# Altium schematic symbol library CN 4POS JST ZE SMT.Schlib: 1 symbol
Pins are listed as number, name and electrical type; pins without a type are passive.

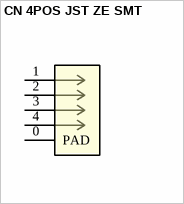
[diagram p0: symbol CN 4POS JST ZE SMT]

## CN 4POS JST ZE SMT
designator J?, comment BM04B-ZESS-TBT(LF)(SN)
Connector Header, ZE Series, 4 Positon, 1.5mm, Shrouded - 4 Wall, Solder, Locking Ramp, Natural; Parameter 1: *
footprint JST ZE SMT 4POS (4 POS HDR JST ZE)
pins: 0 PAD, 1, 2, 3, 4